# Altium schematic symbol library Atmega328p.SchLib: 1 symbol
Pins are listed as number, name and electrical type; pins without a type are passive.

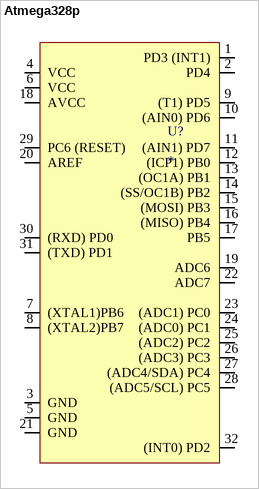
[diagram p0: symbol Atmega328p]

## Atmega328p
designator U?
pins: 1 PD3 (INT1), 2 PD4, 3 GND, 4 VCC, 5 GND, 6 VCC, 7 (XTAL1)PB6, 8 (XTAL2)PB7, 9 (T1) PD5, 10 (AIN0) PD6, 11 (AIN1) PD7, 12 (ICP1) PB0, 13 (OC1A) PB1, 14 (SS/OC1B) PB2, 15 (MOSI) PB3, 16 (MISO) PB4, 17 PB5, 18 AVCC, 19 ADC6, 20 AREF, 21 GND, 22 ADC7, 23 (ADC1) PC0, 24 (ADC0) PC1, 25 (ADC2) PC2, 26 (ADC3) PC3, 27 (ADC4/SDA) PC4, 28 (ADC5/SCL) PC5, 29 PC6 (RESET), 30 (RXD) PD0, 31 (TXD) PD1, 32 (INT0) PD2